# Altium schematic symbol library MSC Modules.SchLib: 4 symbols
Pins are listed as number, name and electrical type; pins without a type are passive.

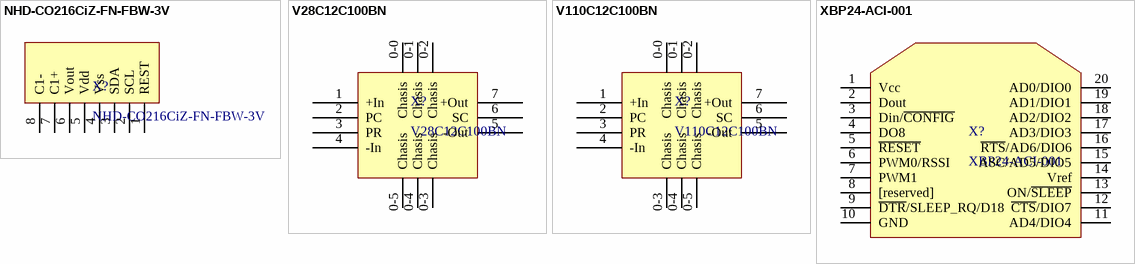
[diagram p0: symbols NHD-CO216CiZ-FN-FBW-3V to XBP24-ACI-001]

## NHD-CO216CiZ-FN-FBW-3V
designator X?
LCD, Charater, 2x16, I2C interface; Manufacturer: Newhaven Display International; Data Rate: 400kbps (max); Supply Voltage: 2.7V to 3.3V; Current: 0.5 mA; Interface: 3V I2C; Latest Rev Note: Component Created; Backlight: None; Mode: Transflective; ComponentLink1URL: http://www.newhavendisplay.com/specs/NHD-C0216CiZ-FN-FBW-3V.pdf; ComponentLink2URL: http://www.newhavendisplay.com/index.php?main_page=product_info&cPath=3_111&products_id=2301; ComponentLink1Description: Datasheet; ComponentLink2Description: MFG Product Page; Latest Rev Date: Nov 16, 2010; MFG Part Number: NHD-CO216CiZ-FN-FBW-3V; Package: Custom Newhaven COG display module; Published: Nov 16, 2010; Publisher: Chris Bergsneider; Type: Character; Size Display: 2x16; Size Physical: 49.7mm x 25.3mm x 2.1mm
footprint LCD-1 (COG (Chip-on-Glass) Liquid Crystal Display Module (1/16" rise above board))
pins: 1 REST, 2 SCL, 3 SDA, 4 Vss, 5 Vdd, 6 Vout, 7 C1+, 8 C1-

## V28C12C100BN
designator X?
110V in, 12V out, Vicor Micro DC-DC modulde; Latest Rev Note: Updated Parameters replaced footprint; Vin: 28V DC (9V - 36V); Vout: 12V DC; Power: 100W; Current Out: 8A approx; ComponentLink1URL: http://cdn.vicorpower.com/documents/datasheets/ds_28vin-micro-family.pdf; Latest Rev Date: Oct 28, 2010; Manufacturer: Vicor; Package: Custom Vicor Micro series package; Published: May 5, 2010; Publisher: Chris Bergsneider; ComponentLink1Description: Datasheet; ComponentLink3Description: MFG Product Page; ComponentLink2URL: http://cdn.vicorpower.com/documents/applications_manual/fas_trak_apps_manual.pdf; ComponentLink2Description: Design Guide; ComponentLink3URL: http://www.vicorpower.com/cms/home/products/brick/mini-maxi-micro-converters; MFG Part Number: V28C12C100BN
footprint Vicor Micro module (Vicor Micro DC-DC converter, Long Pins)
pins: 0-0 Chasis, 0-1 Chasis, 0-2 Chasis, 0-3 Chasis, 0-4 Chasis, 0-5 Chasis, 1 +In, 2 PC, 3 PR, 4 -In, 5 -Out, 6 SC, 7 +Out

## V110C12C100BN
designator X?
110V in, 12V out, Vicor Micro DC-DC modulde; Latest Rev Note: Updated Parameters replaced footprint; Vin: 110V DC (66V - 154V); Vout: 12V DC; Power: 100W; Current Out: 8A approx; ComponentLink1URL: http://cdn.vicorpower.com/documents/datasheets/ds_110vin-micro-family.pdf; Latest Rev Date: Oct 28, 2010; Manufacturer: Vicor; Package: Custom Vicor Micro series package; Published: May 5, 2010; Publisher: Chris Bergsneider; ComponentLink1Description: Datasheet; ComponentLink3Description: MFG Product Page; ComponentLink2URL: http://cdn.vicorpower.com/documents/applications_manual/fas_trak_apps_manual.pdf; ComponentLink2Description: Design Guide; ComponentLink3URL: http://www.vicorpower.com/cms/home/products/brick/mini-maxi-micro-converters; MFG Part Number: V110C12C100BN
footprint Vicor Micro module (Vicor Micro DC-DC converter, Long Pins)
pins: 0-0 Chasis, 0-1 Chasis, 0-2 Chasis, 0-3 Chasis, 0-4 Chasis, 0-5 Chasis, 1 +In, 2 PC, 3 PR, 4 -In, 5 -Out, 6 SC, 7 +Out

## XBP24-ACI-001
designator X?
XBee Pro, 802.15.4, 60mW, Chip Antenna; Manufacturer: Digi International; Data Rate: 115.2kbps (max); Opperating Frequency Band: 2.4 GHz to 2.4835 GHz; Power Output: 63 mW (+18 dBm); Range: Up to 300 ft (90 m) indoors/urban, Up to 1 mile (1.6 km) RF LOS; Supply Voltage: 2.8V to 3.4V; Channels: 12; Current: 215mA transmit, 55mA receive; Interface: 3V CMOS UART; Latest Rev Note: Component Created; ComponentLink1URL: http://ftp1.digi.com/support/documentation/90000982_B.pdf; ComponentLink1Description: Product Manual; ComponentLink2URL: http://www.digi.com/pdf/ds_xbeemultipointmodules.pdf; ComponentLink3URL: http://www.digi.com/products/wireless/point-multipoint/xbee-series1-module.jsp#overview; ComponentLink2Description: Datasheet; ComponentLink3Description: MFG Product Page; Antenna: Chip; Latest Rev Date: Oct 28, 2010; MFG Part Number: XBP24-ACI-001; Package: Standard XBee Pro 20pin DIP 2mm Pitch; Published: Oct 28, 2010; Publisher: Chris Bergsneider
footprint XBee Pro (XBee Pro, 20p DIP, 2mm Pitch, 22mm row spacing)
pins: 1 Vcc, 2 Dout, 3 Din/~{CONFIG}, 4 DO8, 5 ~{RESET}, 6 PWM0/RSSI, 7 PWM1, 8 [reserved], 9 ~{DTR}/SLEEP_RQ/D18, 10 GND, 11 AD4/DIO4, 12 ~{CTS}/DIO7, 13 ON/~{SLEEP}, 14 Vref, 15 ASC/AD5/DIO5, 16 ~{RTS}/AD6/DIO6, 17 AD3/DIO3, 18 AD2/DIO2, 19 AD1/DIO1, 20 AD0/DIO0